# Altium footprint library LAUNCHXL-F28379D-REV2.0.PcbLib: 42 footprints (part 3 of 3)
Each footprint in its own frame and in the unit in brackets; x right, y up, seen from the top. Pads: shape width x height; smd on the part's side, far side on the other; paste and mask are expansions set on the pad; w line width, h text height; cw(c..) or ccw(c..) is an arc to the next point about the centre after c.
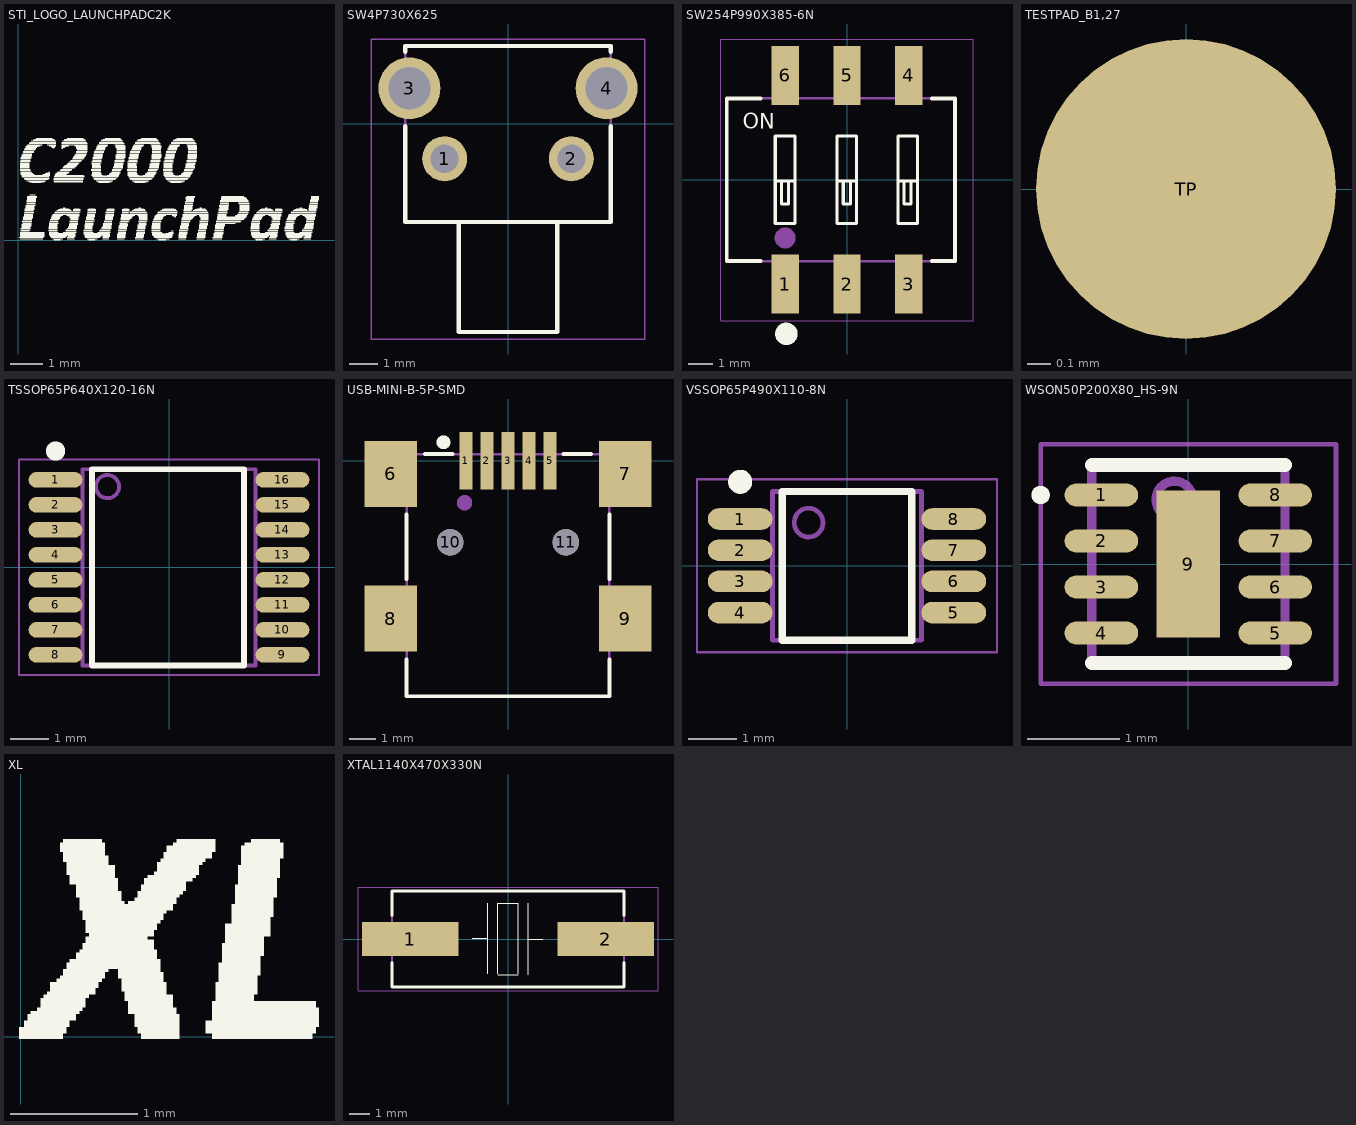
[diagram p2: the footprints below, top view; thin cyan lines are the x and y axes]

## STI_LOGO_LAUNCHPADC2K [mm] "STI_LOGO_LAUNCHPADC2K"
Top Overlay:
  drawing of 2756 lines, arcs and shapes, not listed

## SW4P730X625 [mm]
pads (4):
  round 1.6 hole 1 paste+0 mask+0.1: 1(-2.25,-1.25) 2(2.25,-1.25)
  round 2.2 hole 1.5 paste+0 mask+0.1: 3(-3.5,1.25) 4(3.5,1.25)
Top Overlay:
  lines w0.15: -3.65,-0.1 -3.65,-3.5 3.65,-3.5 3.65,-0.1 ; -3.65,2.55 -3.65,2.75 3.65,2.75 3.65,2.55 ; -1.75,-3.6 -1.75,-7.4 1.75,-7.4 1.75,-3.55
Mechanical 14:
  lines w0.1: -1.75,-3.5 -1.75,-7.4 1.75,-7.4 1.75,-3.5 ; 1.75,-6.275 1.75,-6.225 ; -3.65,-3.5 -3.65,2.75 3.65,2.75 3.65,-3.5 -3.65,-3.5
Mechanical 16:
  lines w0.05: -4.85,-7.65 4.85,-7.65 4.85,3 -3.15,3 -4.85,3 -4.85,-7.65

## SW254P990X385-6N [mm] "SWS8JP"
pads (6):
  rect 1.13x2.44 smd paste+0 mask+0.1: 1(-2.54,-4.3) 2(0,-4.3) 3(2.54,-4.3) 4(2.54,4.3) 5(0,4.3) 6(-2.54,4.3)
Top Overlay:
  circle w0.5: c-2.5,-6.35 r0.212
  lines w0.127: -2.955,-1.81 -2.155,-1.81 ; -2.955,-1.8 -2.955,1.8 ; -2.955,-0.05 -2.155,-0.05 ; -2.955,1.81 -2.155,1.81 ; -2.705,-0.05 -2.705,-1 -2.405,-1 -2.405,-0.05 ; -2.15,-1.8 -2.15,1.8 ; -0.405,-1.81 0.395,-1.81 ; -0.405,-1.8 -0.405,1.8 ; -0.405,-0.05 0.395,-0.05 ; -0.405,1.81 0.395,1.81 ; -0.155,-0.05 -0.155,-1 0.145,-1 0.145,-0.05 ; 0.4,-1.8 0.4,1.8 ; 2.095,-1.81 2.895,-1.81 ; 2.095,-1.8 2.095,1.8 ; 2.095,-0.05 2.895,-0.05 ; 2.095,1.81 2.895,1.81 ; 2.345,-0.05 2.345,-1 2.645,-1 2.645,-0.05 ; 2.9,-1.8 2.9,1.8
  lines w0.15: -3.55,-3.35 -4.95,-3.35 -4.95,3.35 -3.55,3.35 ; 3.5,-3.35 4.45,-3.35 4.45,3.35 3.5,3.35
  text "ON" at -4.3,2.1 h0.64
Mechanical 14:
  circle w0.5: c-2.55,-2.4 r0.18
  lines w0.1: -4.95,-3.35 -4.95,3.35 4.45,3.35 4.45,-3.35 -4.95,-3.35
Mechanical 16:
  lines w0.05: -5.2,-5.8 -5.2,5.8 -3.45,5.8 5.2,5.8 5.2,-5.8 -5.2,-5.8

## TESTPAD_B1,27 [mm] "TESTPAD_B1,27"
pads (1):
  rrect100% 1.27x1.27 smd: TP(0,0)
Mechanical 16:
  lines w0.002: -0.635,0 0.635,0 ; 0,-0.635 0,0.635
Mechanical 25:
  text ">TP_SIGNAL_NAME" at -0.635,-1.905 h1.55

## TSSOP65P640X120-16N [mm] "TSSOP, 16-Leads, Body 5.00x4.40mm, Pitch 0.65mm, IPC Medium Density"
height 1.2
pads (16):
  oval 1.4x0.4 smd mask+0.1: 1(-2.95,2.275) 2(-2.95,1.625) 3(-2.95,0.975) 4(-2.95,0.325) 5(-2.95,-0.325) 6(-2.95,-0.975) 7(-2.95,-1.625) 8(-2.95,-2.275) 9(2.95,-2.275) 10(2.95,-1.625) 11(2.95,-0.975) 12(2.95,-0.325) 13(2.95,0.325) 14(2.95,0.975) 15(2.95,1.625) 16(2.95,2.275)
Top Overlay:
  circle w0.25: c-2.95,3.025 r0.125
  lines w0.15: -2,-2.55 1.95,-2.55 1.95,2.55 -2,2.55 -2,-2.55
Mechanical 14:
  circle w0.1: c-1.6,2.1 r0.3
  lines w0.1: -2.25,-2.55 2.25,-2.55 2.25,2.55 -2.25,2.55 -2.25,-2.55
Mechanical 16:
  lines w0.05: -3.9,-2.8 3.9,-2.8 3.9,2.8 -3.9,2.8 -3.9,-2.8
3D body: height 1.2, standoff 0.05, extent -2.25,-2.55 2.25,2.55

## USB-MINI-B-5P-SMD [mm]
pads (11):
  rect 0.5x2.2 smd mask+0.1: 1(-1.6,0) 2(-0.8,0) 3(0,0) 4(0.8,0) 5(1.6,0)
  rect 2x2.5 smd mask+0.1: 6(-4.45,-0.5) 7(4.45,-0.5) 8(-4.45,-6) 9(4.45,-6)
  round 1 hole 1 unplated mask+0.1: 10(-2.2,-3.1) 11(2.2,-3.1)
Top Overlay:
  circle w0.3: c-2.45,0.7 r0.112
  lines w0.15: -3.85,-7.55 -3.85,-8.95 3.85,-8.95 3.85,-7.55 ; -3.85,-4.5 -3.85,-2.05 ; -3.15,0.25 -2.1,0.25 ; 2.1,0.25 3.15,0.25 ; 3.85,-4.5 3.85,-2.05
Mechanical 14:
  circle w0.3: c-1.65,-1.6 r0.141
  lines w0.1: -3.85,-8.95 3.85,-8.95 3.85,0.25 -3.85,0.25 -3.85,-8.95
3D body: height 3.9, standoff -1.05, extent -4.93,-9.01 4.97,-0.01

## VSSOP65P490X110-8N [mm] "VSSOP, 8-Leads, Body 3.00x3.00mm, Pitch 0.65mm, IPC Medium Density"
height 1.1
pads (8):
  oval 1.35x0.45 smd mask+0.1: 1(-2.225,0.975) 2(-2.225,0.325) 3(-2.225,-0.325) 4(-2.225,-0.975) 5(2.225,-0.975) 6(2.225,-0.325) 7(2.225,0.325) 8(2.225,0.975)
Top Overlay:
  circle w0.25: c-2.225,1.75 r0.125
  lines w0.15: -1.35,-1.55 1.35,-1.55 1.35,1.55 -1.35,1.55 -1.35,-1.55
Mechanical 14:
  circle w0.1: c-0.8,0.9 r0.3
  lines w0.1: -1.55,-1.55 1.55,-1.55 1.55,1.55 -1.55,1.55 -1.55,-1.55
Mechanical 16:
  lines w0.05: -3.125,-1.8 3.125,-1.8 3.125,1.8 -3.125,1.8 -3.125,-1.8
3D body: height 1.1, standoff 0.05, extent -1.55,-1.55 1.55,1.55

## WSON50P200X80_HS-9N [mm] "WSON, 8-Leads, Body 2.00x2.00mm, Pitch 0.50mm, Thermal Pad 1.60x0.69mm, IPC Medium Density"
height 0.8
pads (9):
  oval 0.8x0.25 smd mask+0.1: 1(-0.945,0.75) 2(-0.945,0.25) 3(-0.945,-0.25) 4(-0.945,-0.75) 5(0.945,-0.75) 6(0.945,-0.25) 7(0.945,0.25) 8(0.945,0.75)
  rect 0.69x1.6 smd mask+0.1: 9(0,0)
Top Overlay:
  circle w0.1: c-1.605,0.75 r0.05
  lines w0.15: -1.05,-1.075 1.05,-1.075 ; -1.05,1.075 1.05,1.075
Mechanical 14:
  circle w0.1: c-0.15,0.7 r0.2
  lines w0.1: -1.05,-1.05 -1.05,1.05 1.05,1.05 1.05,-1.05 -1.05,-1.05
Mechanical 16:
  lines w0.05: -1.605,-1.3 -1.605,1.3 1.605,1.3 1.605,-1.3 -1.605,-1.3
3D body: height 0.8, standoff 0, extent -1.05,-1.05 1.05,1.05

## XL [mm] "XL"
Top Overlay:
  drawing of 362 lines, arcs and shapes, not listed

## XTAL1140X470X330N [mm]
pads (2):
  rect 4.75x1.65 smd paste+0 mask+0.1: 1(-4.8,0) 2(4.8,0)
Top Overlay:
  lines w0.05: -1.75,0.025 -1,0.025 ; -1,-1.7 -1,1.75 ; -0.5,-1.75 0.5,-1.75 ; -0.5,-1.7 -0.5,1.75 0.5,1.75 0.5,-1.7 ; 1,-1.75 1,1.75 ; 1,0 1.7,0
  lines w0.15: -5.7,-1.15 -5.7,-2.35 5.7,-2.35 5.7,-1.15 ; -5.7,1.15 -5.7,2.35 5.7,2.35 5.7,1.15
Mechanical 14:
  lines w0.1: -5.7,-2.35 -5.7,2.35 5.7,2.35 5.7,-2.35 -5.7,-2.35
Mechanical 16:
  lines w0.05: -7.375,-2.55 -7.375,2.55 7.375,2.55 7.375,-2.55 -7.375,-2.55